# Altium schematic symbol library TPS7A8101.SchLib: 1 symbol
Pins are listed as number, name and electrical type; pins without a type are passive.

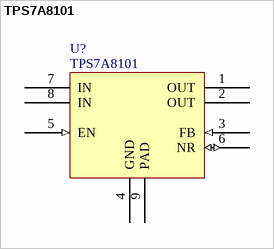
[diagram p0: symbol TPS7A8101]

## TPS7A8101
designator U?
pins: 1 OUT (power), 2 OUT (power), 3 FB (in), 4 GND (power), 5 EN (in), 6 NR (io), 7 IN (power), 8 IN (power), 9 PAD (power)